# Altium schematic symbol library STVM100.Schlib: 1 symbol
Pins are listed as number, name and electrical type; pins without a type are passive.

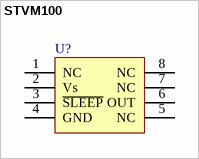
[diagram p0: symbol STVM100]

## STVM100
designator U?  (value not drawn)
pins: 1 NC, 2 Vs, 3 ~{SLEEP}, 4 GND, 5 NC, 6 OUT, 7 NC, 8 NC
1 alternate drawing of the same symbol